# EAGLE library part ESP-M2 (library dawidkulpa_modules)
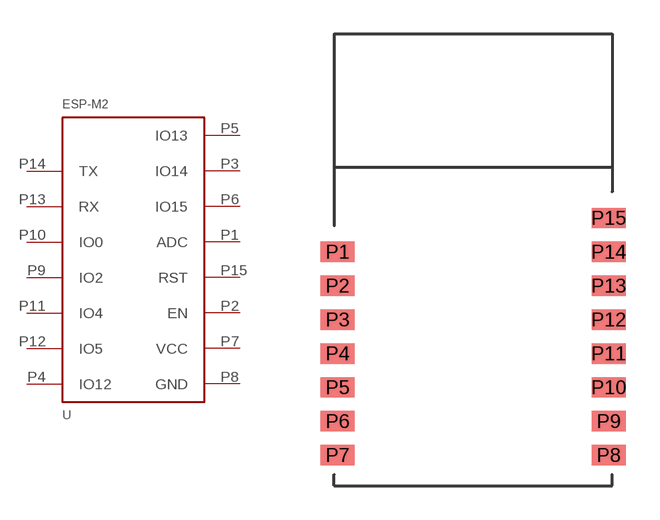
[diagram p5: symbol with the pads of ESP-M2; footprint ESP-M2]

Designator prefix -

## ESP-M2  [ESP-M2]
P1  ADC
P2  EN
P3  IO14
P4  IO12
P5  IO13
P6  IO15
P7  VCC
P8  GND
P9  IO2
P10  IO0
P11  IO4
P12  IO5
P13  RX
P14  TX
P15  RST

## Footprint ESP-M2 (pad centres in mm)
smd 1.5 x 0.9: P1 -6,0.35; P2 -6,-1.15; P3 -6,-2.65; P4 -6,-4.15; P5 -6,-5.65; P6 -6,-7.15; P7 -6,-8.65; P8 6,-8.65; P9 6,-7.15; P10 6,-5.65; P11 6,-4.15; P12 6,-2.65; P13 6,-1.15; P14 6,0.35; P15 6,1.85